# Altium schematic symbol library EL-sense_Power_Switch_ICs.SchLib: 7 symbols
Pins are listed as number, name and electrical type; pins without a type are passive.

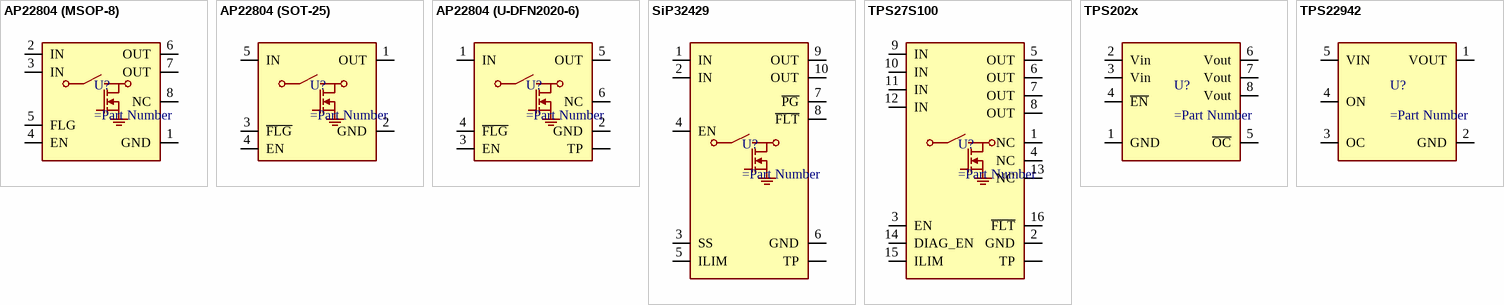
[diagram p0: symbols AP22804 (MSOP-8) to TPS22942]

## AP22804 (MSOP-8)
designator U?
pins: 1 GND, 2 IN, 3 IN, 4 EN, 5 FLG, 6 OUT, 7 OUT, 8 NC

## AP22804 (SOT-25)
designator U?
pins: 1 OUT, 2 GND, 3 ~{FLG}, 4 EN, 5 IN

## AP22804 (U-DFN2020-6)
designator U?
pins: 1 IN, 2 GND, 3 EN, 4 ~{FLG}, 5 OUT, 6 NC, TP

## SiP32429
designator U?
pins: 1 IN, 2 IN, 3 SS, 4 EN, 5 ILIM, 6 GND, 7 ~{PG}, 8 ~{FLT}, 9 OUT, 10 OUT, TP

## TPS27S100
designator U?
pins: 1 NC, 2 GND, 3 EN, 4 NC, 5 OUT, 6 OUT, 7 OUT, 8 OUT, 9 IN, 10 IN, 11 IN, 12 IN, 13 NC, 14 DIAG_EN, 15 ILIM, 16 ~{FLT}, TP

## TPS202x
designator U?
pins: 1 GND, 2 Vin, 3 Vin, 4 ~{EN}, 5 ~{OC}, 6 Vout, 7 Vout, 8 Vout

## TPS22942
designator U?
pins: 1 VOUT, 2 GND, 3 OC, 4 ON, 5 VIN